# EAGLE library part TPS6102* (library kamiki)
DC-DC converter 96% Efficient Synchronous Boost Converter with 1.5-A Switch
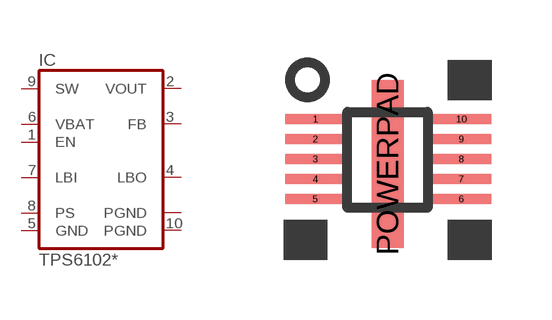
[diagram p32: symbol with the pads of QFN-10; footprint QFN-10]

Designator prefix IC

## TPS61020DRC, TPS61024DRC, TPS61025DRC, TPS61027DRC  [QFN-10]
1  EN  in
2  VOUT  out
3  FB  pas
4  LBO  out
5  GND  pwr
6  VBAT  pwr
7  LBI  pas
8  PS  pas
9  SW  pas
10  PGND  pwr
POWERPAD  PGND  pwr

## Footprint QFN-10 (pad centres in mm)
QFN-10
smd 1.5 x 0.25: 1 -1.805,1.02; 2 -1.805,0.52; 3 -1.805,0.02; 4 -1.805,-0.48; 5 -1.805,-0.98; 6 1.845,-0.98; 7 1.845,-0.48; 8 1.845,0.02; 9 1.845,0.52; 10 1.845,1.02
smd 0.8 x 4.2: POWERPAD 0,-0.1